# Altium integrated library praline.IntLib: 119 symbols
Pins are listed as number, name and electrical type; pins without a type are passive.

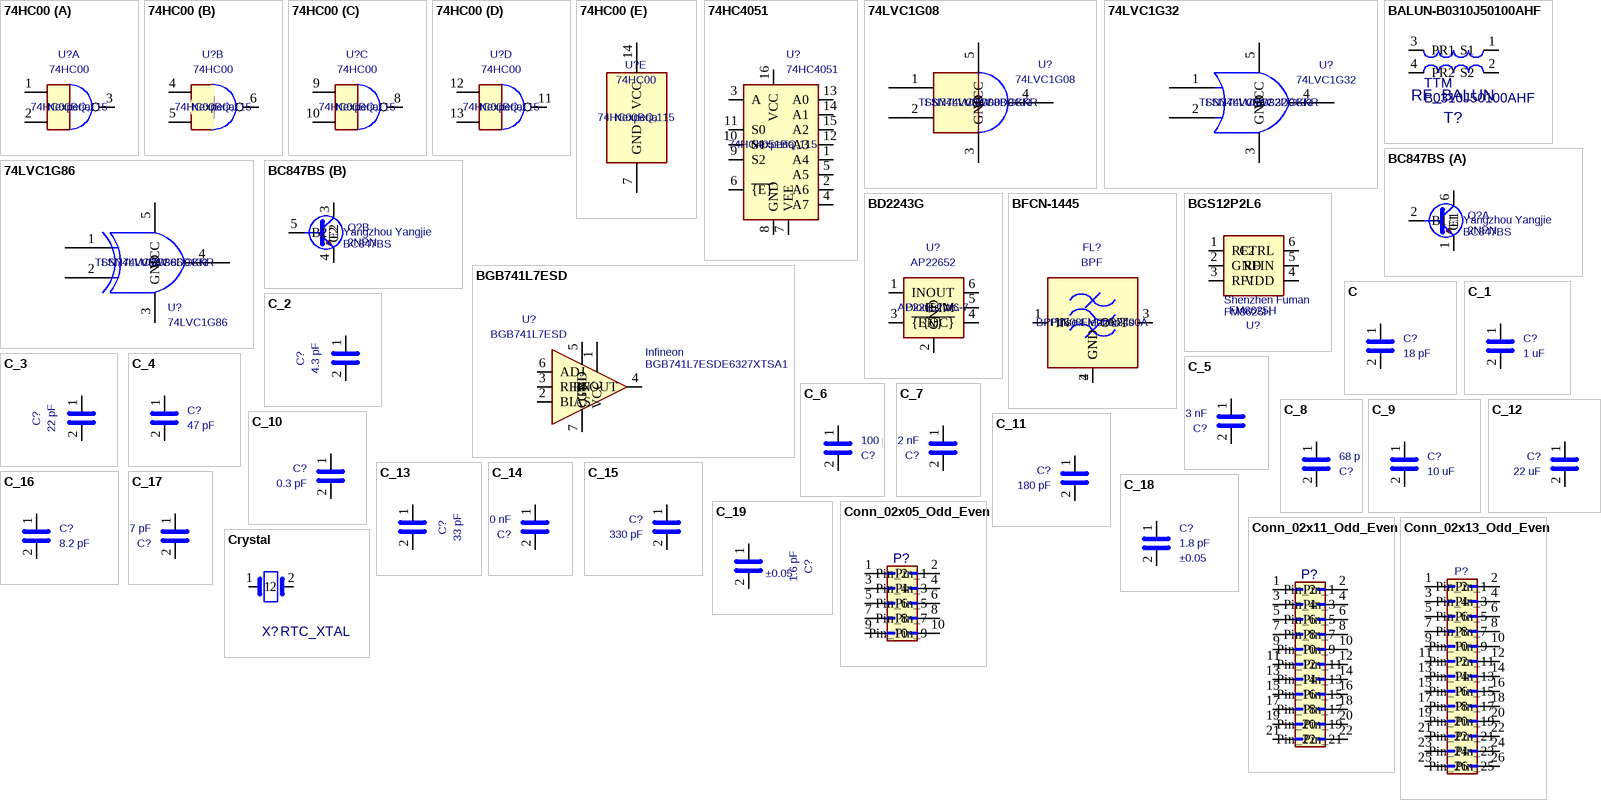
[diagram p0: symbols 74HC00 to Crystal]

## 74HC00
designator U?  Manufacturer: Nexperia  Part Number: 74HC00BQ,115  (hidden comment: 74HC00)
Footprint: Package_DFN_QFN:DHVQFN-14-1EP_2.5x3mm_P0.5mm_EP1x1.5mm; Value: 74HC00
footprint DHVQFN-14-1EP_2.5x3mm_P0.5mm_EP1x1.5mm
part A pins: 1, 2, 3
part B pins: 4, 5, 6
part C pins: 8, 9, 10
part D pins: 11, 12, 13
part E pins: 7 GND, 14 VCC
1 alternate drawing of the same symbol

## 74HC4051
designator U?  Manufacturer: Nexperia  Part Number: 74HC4051BQ,115  (hidden comment: 74HC4051)
Value: 74HC4051; Footprint: Package_DFN_QFN:DHVQFN-16-1EP_2.5x3.5mm_P0.5mm_EP1x2mm
footprint DHVQFN-16-1EP_2.5x3.5mm_P0.5mm_EP1x2mm
pins: 1 A4, 2 A6, 3 A, 4 A7, 5 A5, 6 ~{{E}}, 7 VEE, 8 GND, 9 S2, 10 S1, 11 S0, 12 A3, 13 A0, 14 A1, 15 A2, 16 VCC

## 74LVC1G08
designator U?  Manufacturer: UMW  Part Number: SN74LVC1G08DCKR  Substitution: TI SN74LVC1G08DCKR  (hidden comment: 74LVC1G08)
Value: 74LVC1G08; Footprint: Package_TO_SOT_SMD:SOT-353_SC-70-5
footprint SOT-353_SC-70-5
pins: 1, 2, 3 GND, 4, 5 VCC

## 74LVC1G32
designator U?  Manufacturer: UMW  Part Number: SN74LVC1G32DCKR  Substitution: TI SN74LVC1G32DCKR  (hidden comment: 74LVC1G32)
Value: 74LVC1G32; Footprint: Package_TO_SOT_SMD:SOT-353_SC-70-5
footprint SOT-353_SC-70-5
pins: 1, 2, 3 GND, 4, 5 VCC

## 74LVC1G86
designator U?  Manufacturer: UMW  Part Number: SN74LVC1G86DCKR  Substitution: TI SN74LVC1G86DCKR  (hidden comment: 74LVC1G86)
Value: 74LVC1G86; Footprint: Package_TO_SOT_SMD:SOT-353_SC-70-5
footprint SOT-353_SC-70-5
pins: 1, 2, 3 GND, 4, 5 VCC

## BALUN-B0310J50100AHF
designator T?, comment Manufacturer: TTM  Part Number: B0310J50100AHF  (hidden comment: RF_BALUN)
Value: RF_BALUN; Footprint: RF_Converter:Anaren_0805_2012Metric-6
footprint Anaren_0805_2012Metric-6
pins: 1 S1, 2 S2, 3 PR1, 4 PR2

## BC847BS
designator Q?, comment Manufacturer: Yangzhou Yangjie  Part Number: BC847BS  (hidden comment: 2NPN)
Value: 2NPN; Footprint: Package_TO_SOT_SMD:SOT-363_SC-70-6
footprint SOT-363_SC-70-6
part A pins: 1 E1, 2 B1, 6 C1
part B pins: 3 C2, 4 E2, 5 B2

## BD2243G
designator U?, comment Manufacturer: Diodes Inc.  Part Number: AP22652W6-7  (hidden comment: AP22652)
Value: AP22652; Footprint: Package_SO:TSOP-6_1.65x3.05mm_P0.95mm
footprint TSOP-6_1.65x3.05mm_P0.95mm
pins: 1 IN, 2 GND, 3 ~{{EN}}, 4 ~{{OC}}, 5 ILIM, 6 OUT

## BFCN-1445
designator FL?, comment Manufacturer: Pulse Electronics  Part Number: BPF1608LM02R2400A  (hidden comment: BPF)
Value: BPF; Footprint: praline:Filter_Pulse_BPF1608LM09R5000A
footprint Filter_Pulse_BPF1608LM09R5000A
pins: 1 IN, 2 GND, 3 OUT, 4 GND

## BGB741L7ESD
designator U?  Manufacturer: Infineon  Part Number: BGB741L7ESDE6327XTSA1  (hidden comment: BGB741L7ESD)
Value: BGB741L7ESD; Footprint: praline:TSLP-7-1
footprint TSLP-7-1
pins: 1 VCC, 2 BIAS, 3 RFIN, 4 RFOUT, 5 CTRL, 6 ADJ, 7 GND

## BGS12P2L6
designator U?, comment Manufacturer: Shenzhen Fuman  (hidden comment: FM8625H)
Part Number: FM8625H; Value: FM8625H; Footprint: praline:TSLP-6-4_1.1x0.7mm_P0.4mm
footprint TSLP-6-4_1.1x0.7mm_P0.4mm
pins: 1 RF2, 2 GND, 3 RF1, 4 VDD, 5 RFIN, 6 CTRL

## C
designator C?, comment 18 pF
Manufacturer: Samsung; Part Number: CL05C180JB5NNNC; Substitution: Murata GRM1555C1H180JA01D; Value: 18 pF; Footprint: Capacitor_SMD:C_0402_1005Metric
footprint C_0402_1005Metric
pins: 1, 2

## C_1
designator C?, comment 1 uF
Manufacturer: Samsung; Part Number: CL05A105KA5NQNC; Substitution: Murata GRM155R61E105KA12D; Value: 1 uF; Footprint: Capacitor_SMD:C_0402_1005Metric
footprint C_0402_1005Metric
pins: 1, 2

## C_2
designator C?, comment 4.3 pF
Manufacturer: Murata; Part Number: GRM0335C1E4R3CA01D; Substitution: GRM0335C1E4R3*, GRM0335C1H4R3*; Value: 4.3 pF; Footprint: Capacitor_SMD:C_0201_0603Metric
footprint C_0201_0603Metric
pins: 1, 2

## C_3
designator C?, comment 22 pF
Manufacturer: Murata; Part Number: GRM0335C1H220JA01D; Substitution: GRM0335C1H220*; Value: 22 pF; Footprint: Capacitor_SMD:C_0201_0603Metric
footprint C_0201_0603Metric
pins: 1, 2

## C_4
designator C?, comment 47 pF
Manufacturer: Murata; Part Number: GRM0335C1E470JA01D; Substitution: GRM0335C1E470JA01*, GRM0335C1H470JA01*; Value: 47 pF; Footprint: Capacitor_SMD:C_0201_0603Metric
footprint C_0201_0603Metric
pins: 1, 2

## C_5
designator C?, comment 3.3 nF
Manufacturer: Murata; Part Number: GRM033R71A332KA01D; Substitution: GRM033R71A332K*; Value: 3.3 nF; Footprint: Capacitor_SMD:C_0201_0603Metric
footprint C_0201_0603Metric
pins: 1, 2

## C_6
designator C?, comment 100 pF
Manufacturer: Murata; Part Number: GRM0335C1E101JA01D; Substitution: GRM0335C1E101JA01*, GRM0335C1H101JA01*; Value: 100 pF; Footprint: Capacitor_SMD:C_0201_0603Metric
footprint C_0201_0603Metric
pins: 1, 2

## C_7
designator C?, comment 2.2 nF
Manufacturer: Murata; Part Number: GRM033R71A222KA01D; Substitution: GRM033R71A222KA01*; Value: 2.2 nF; Footprint: Capacitor_SMD:C_0201_0603Metric
footprint C_0201_0603Metric
pins: 1, 2

## C_8
designator C?, comment 68 pF
Manufacturer: Murata; Part Number: GRM0335C1H680JA01D; Substitution: GRM0335C1H680JA01*; Value: 68 pF; Footprint: Capacitor_SMD:C_0201_0603Metric
footprint C_0201_0603Metric
pins: 1, 2

## C_9
designator C?, comment 10 uF
Manufacturer: Samsung; Part Number: CL21A106KOQNNNE; Substitution: Murata GRM21BR61A106KE19L; Value: 10 uF; Footprint: Capacitor_SMD:C_0805_2012Metric
footprint C_0805_2012Metric
pins: 1, 2

## C_10
designator C?, comment 0.3 pF
Manufacturer: Murata; Part Number: GRM0335C1ER30BA01D; Substitution: GRM0335C1*R30*A01*, GRM0335C2*R30*A01*; Value: 0.3 pF; Footprint: Capacitor_SMD:C_0201_0603Metric
footprint C_0201_0603Metric
pins: 1, 2

## C_11
designator C?, comment 180 pF
Manufacturer: Murata; Part Number: GRM0335C1H181JA01D; Substitution: GRM0335C1H181*; Value: 180 pF; Footprint: Capacitor_SMD:C_0201_0603Metric
footprint C_0201_0603Metric
pins: 1, 2

## C_12
designator C?, comment 22 uF
Manufacturer: Samsung; Part Number: CL21A226MAYNNNE; Substitution: Murata GRM21BR61A106KE19L; Value: 22 uF; Footprint: Capacitor_SMD:C_0805_2012Metric
footprint C_0805_2012Metric
pins: 1, 2

## C_13
designator C?, comment 33 pF
Manufacturer: Murata; Part Number: GRM0335C1H330JA01D; Substitution: GRM0335C1H330*, GRM0335C1E330*; Value: 33 pF; Footprint: Capacitor_SMD:C_0201_0603Metric
footprint C_0201_0603Metric
pins: 1, 2

## C_14
designator C?, comment 100 nF
Manufacturer: Samsung; Part Number: CL05A104KA5NNNC; Substitution: Murata GRM155R61A104KA01D; Value: 100 nF; Footprint: Capacitor_SMD:C_0402_1005Metric
footprint C_0402_1005Metric
pins: 1, 2

## C_15
designator C?, comment 330 pF
Part Number: GRM0335C1E331JA01D; Manufacturer: Murata; Substitution: GRM0335C1E331*, GRM0335C1H331*; Value: 330 pF; Footprint: Capacitor_SMD:C_0201_0603Metric
footprint C_0201_0603Metric
pins: 1, 2

## C_16
designator C?, comment 8.2 pF
Manufacturer: Murata; Part Number: GRM0335C1H8R2CA01D; Substitution: GRM0335C1H8R2*; Value: 8.2 pF; Footprint: Capacitor_SMD:C_0201_0603Metric
footprint C_0201_0603Metric
pins: 1, 2

## C_17
designator C?, comment 0.7 pF
Manufacturer: Murata; Part Number: GRM0335C1ER70WA01D; Substitution: GRM0335C1HR70W*, GRM0335C1ER70W*; Value: 0.7 pF; Footprint: Capacitor_SMD:C_0201_0603Metric
footprint C_0201_0603Metric
pins: 1, 2

## C_18
designator C?, comment Tolerance: ±0.05  (hidden comment: 1.8 pF)
Manufacturer: Murata; Part Number: GRM0335C1E1R8WA01D; Substitution: GRM0335C1H1R8W*, GRM0335C1E1R8W*; Value: 1.8 pF; Footprint: Capacitor_SMD:C_0201_0603Metric
footprint C_0201_0603Metric
pins: 1, 2

## C_19
designator C?, comment Tolerance: ±0.05  (hidden comment: 1.6 pF)
Manufacturer: Murata; Part Number: GRM0335C1E1R6WA01D; Substitution: GRM0335C1H1R6W*, GRM0335C1E1R6W*; Value: 1.6 pF; Footprint: Capacitor_SMD:C_0201_0603Metric
footprint C_0201_0603Metric
pins: 1, 2

## Conn_02x05_Odd_Even
designator P?, comment LPC_JTAG  (value not drawn)
Manufacturer: Sullins; Part Number: GRPB052VWVN-RC; Value: LPC_JTAG; Footprint: Connector_PinHeader_1.27mm:PinHeader_2x05_P1.27mm_Vertical
footprint PinHeader_2x05_P1.27mm_Vertical
pins: 1 Pin_1, 2 Pin_2, 3 Pin_3, 4 Pin_4, 5 Pin_5, 6 Pin_6, 7 Pin_7, 8 Pin_8, 9 Pin_9, 10 Pin_10

## Conn_02x11_Odd_Even
designator P?, comment HEADER_2x11  (value not drawn)
Manufacturer: Sullins; Part Number: PPPC112LFBN-RC; Value: HEADER_2x11; Footprint: praline:PinSocket_2x11_P2.54mm_Vertical_Flipped
footprint PinSocket_2x11_P2.54mm_Vertical_Flipped
pins: 1 Pin_1, 2 Pin_2, 3 Pin_3, 4 Pin_4, 5 Pin_5, 6 Pin_6, 7 Pin_7, 8 Pin_8, 9 Pin_9, 10 Pin_10, 11 Pin_11, 12 Pin_12, 13 Pin_13, 14 Pin_14, 15 Pin_15, 16 Pin_16, 17 Pin_17, 18 Pin_18, 19 Pin_19, 20 Pin_20, 21 Pin_21, 22 Pin_22

## Conn_02x13_Odd_Even
designator P?, comment HEADER_2x13  (value not drawn)
Manufacturer: Sullins; Part Number: PPPC132LFBN-RC; Value: HEADER_2x13; Footprint: praline:PinSocket_2x13_P2.54mm_Vertical_Flipped
footprint PinSocket_2x13_P2.54mm_Vertical_Flipped
pins: 1 Pin_1, 2 Pin_2, 3 Pin_3, 4 Pin_4, 5 Pin_5, 6 Pin_6, 7 Pin_7, 8 Pin_8, 9 Pin_9, 10 Pin_10, 11 Pin_11, 12 Pin_12, 13 Pin_13, 14 Pin_14, 15 Pin_15, 16 Pin_16, 17 Pin_17, 18 Pin_18, 19 Pin_19, 20 Pin_20, 21 Pin_21, 22 Pin_22, 23 Pin_23, 24 Pin_24, 25 Pin_25, 26 Pin_26

## Crystal
designator X?, comment RTC_XTAL
Manufacturer: YXC; Part Number: XKXGI-SUA-32.768K; Value: RTC_XTAL; Footprint: praline:Crystal_SMD_3215-2Pin_3.2x1.5mm
footprint Crystal_SMD_3215-2Pin_3.2x1.5mm
pins: 1, 2

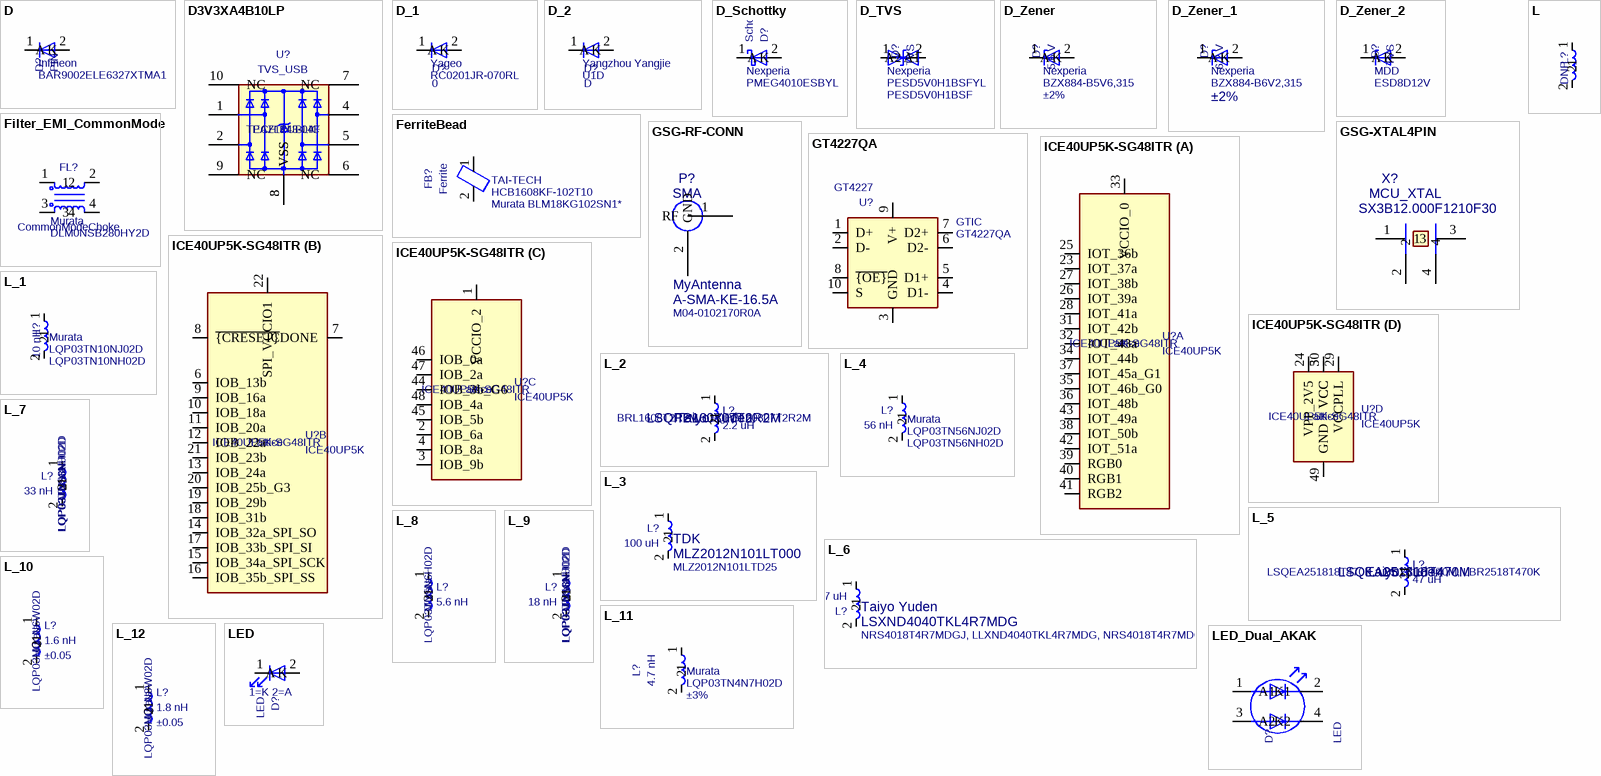
[diagram p1: symbols D to LED_Dual_AKAK]

## D
designator D?, comment Manufacturer: Infineon  Part Number: BAR9002ELE6327XTMA1  (hidden comment: PIN)
Value: PIN; Footprint: praline:TSLP-2-19
footprint TSLP-2-19
pins: 1 K, 2 A

## D3V3XA4B10LP
designator U?, comment Manufacturer: TECH PUBLIC  Part Number: TPAZ1143-04F  (hidden comment: TVS_USB)
Value: TVS_USB; Footprint: Package_DFN_QFN:Diodes_UDFN-10_1.0x2.5mm_P0.5mm
footprint Diodes_UDFN-10_1.0x2.5mm_P0.5mm
pins: 1, 2, 3 VSS, 4, 5, 6 NC, 7 NC, 8 VSS, 9 NC, 10 NC

## D_1
designator D?, comment Manufacturer: Yageo  Part Number: RC0201JR-070RL  (hidden comment: 0)
Value: 0; Footprint: praline:TSLP-2-19
footprint TSLP-2-19
pins: 1 K, 2 A

## D_2
designator D?, comment Manufacturer: Yangzhou Yangjie  Part Number: U1D  (hidden comment: D)
Value: D; Footprint: praline:D_SOD-123FL
footprint D_SOD-123FL
pins: 1 K, 2 A

## D_Schottky
designator D?, comment Manufacturer: Nexperia  Part Number: PMEG4010ESBYL  (hidden comment: Schottky)
Value: Schottky; Footprint: praline:TSLP-2-19
footprint TSLP-2-19
pins: 1 K, 2 A

## D_TVS
designator D?, comment Manufacturer: Nexperia  Part Number: PESD5V0H1BSFYL  Substitution: PESD5V0H1BSF  (hidden comment: TVS)
Value: TVS; Footprint: praline:TSSLP-2-1
footprint TSSLP-2-1
pins: 1 A1, 2 A2

## D_Zener
designator D?, comment Manufacturer: Nexperia  Part Number: BZX884-B5V6,315  Tolerance: ±2%  (hidden comment: 5.6 V)
Value: 5.6 V; Footprint: praline:TSLP-2-19
footprint TSLP-2-19
pins: 1 K, 2 A

## D_Zener_1
designator D?, comment Manufacturer: Nexperia  Part Number: BZX884-B6V2,315  Tolerance: ±2%  (hidden comment: 6.2 V)
Value: 6.2 V; Footprint: praline:TSLP-2-19
footprint TSLP-2-19
pins: 1 K, 2 A

## D_Zener_2
designator D?, comment Manufacturer: MDD  Part Number: ESD8D12V  (hidden comment: TVS)
Value: TVS; Footprint: praline:TSLP-2-19
footprint TSLP-2-19
pins: 1 K, 2 A

## FerriteBead
designator FB?, comment Manufacturer: TAI-TECH  Part Number: HCB1608KF-102T10  Substitution: Murata BLM18KG102SN1*  (hidden comment: Ferrite)
Value: Ferrite; Footprint: Inductor_SMD:L_0603_1608Metric
footprint L_0603_1608Metric
pins: 1, 2

## Filter_EMI_CommonMode
designator FL?, comment Manufacturer: Murata  Part Number: DLM0NSB280HY2D  (hidden comment: CommonModeChoke)
Value: CommonModeChoke; Footprint: praline:L_CommonModeChoke_Murata_DLM0NS
footprint L_CommonModeChoke_Murata_DLM0NS
pins: 1, 2, 3, 4

## GSG-RF-CONN
designator P?, comment Manufacturer: MyAntenna  Part Number: A-SMA-KE-16.5A  Substitution: M04-0102170R0A  (hidden comment: SMA)
Value: SMA; Footprint: praline:SMA_MyAntenna_A-SMA-KE-16.5A_EdgeMount
footprint SMA_MyAntenna_A-SMA-KE-16.5A_EdgeMount
pins: 1 RF, 2 GND

## GSG-XTAL4PIN
designator X?, comment Part Number: SX3B12.000F1210F30  (hidden comment: MCU_XTAL)
Manufacturer: Shenzhen SCTF Electronics; Value: MCU_XTAL; Footprint: praline:Crystal_SMD_3225-4Pin_3.2x2.5mm
footprint Crystal_SMD_3225-4Pin_3.2x2.5mm
pins: 1, 2, 3, 4

## GT4227QA
designator U?, comment Manufacturer: GTIC  Part Number: GT4227QA  (hidden comment: GT4227)
Value: GT4227; Footprint: praline:GTIC_UQFN-10_1.4x1.8mm_P0.4mm
footprint GTIC_UQFN-10_1.4x1.8mm_P0.4mm
pins: 1 D+, 2 D-, 3 GND, 4 D1-, 5 D1+, 6 D2-, 7 D2+, 8 ~{{OE}}, 9 V+, 10 S

## ICE40UP5K-SG48ITR
designator U?, comment Manufacturer: Lattice  Part Number: ICE40UP5K-SG48ITR  (hidden comment: ICE40UP5K)
Value: ICE40UP5K; Footprint: praline:QFN-48-1EP_7x7mm_P0.5mm_EP5.6x5.6mm_ThermalVias
footprint QFN-48-1EP_7x7mm_P0.5mm_EP5.6x5.6mm_ThermalVias
part A pins: 23 IOT_37a, 25 IOT_36b, 26 IOT_39a, 27 IOT_38b, 28 IOT_41a, 31 IOT_42b, 32 IOT_43a, 33 VCCIO_0, 34 IOT_44b, 35 IOT_46b_G0, 36 IOT_48b, 37 IOT_45a_G1, 38 IOT_50b, 39 RGB0, 40 RGB1, 41 RGB2, 42 IOT_51a, 43 IOT_49a
part B pins: 6 IOB_13b, 7 CDONE, 8 ~{{CRESET}}, 9 IOB_16a, 10 IOB_18a, 11 IOB_20a, 12 IOB_22a, 13 IOB_24a, 14 IOB_32a_SPI_SO, 15 IOB_34a_SPI_SCK, 16 IOB_35b_SPI_SS, 17 IOB_33b_SPI_SI, 18 IOB_31b, 19 IOB_29b, 20 IOB_25b_G3, 21 IOB_23b, 22 SPI_VCCIO1
part C pins: 1 VCCIO_2, 2 IOB_6a, 3 IOB_9b, 4 IOB_8a, 44 IOB_3b_G6, 45 IOB_5b, 46 IOB_0a, 47 IOB_2a, 48 IOB_4a
part D pins: 5 VCC, 24 VPP_2V5, 29 VCCPLL, 30 VCC, 49 GND

## L
designator L?, comment DNP
Value: DNP; Footprint: Inductor_SMD:L_0201_0603Metric
footprint L_0201_0603Metric
pins: 1, 2

## L_1
designator L?, comment Manufacturer: Murata  Part Number: LQP03TN10NJ02D  Substitution: LQP03TN10NH02D  (hidden comment: 10 nH)
Value: 10 nH; Footprint: Inductor_SMD:L_0201_0603Metric
footprint L_0201_0603Metric
pins: 1, 2

## L_2
designator L?, comment Manufacturer: Taiyo Yuden  Part Number: LSQPB160807T2R2M  Substitution: BRL1608T2R2M, LLQPB160807T2R2M  (hidden comment: 2.2 uH)
Value: 2.2 uH; Footprint: Inductor_SMD:L_0603_1608Metric
footprint L_0603_1608Metric
pins: 1, 2

## L_3
designator L?, comment Manufacturer: TDK  Part Number: MLZ2012N101LT000  Substitution: MLZ2012N101LTD25  (hidden comment: 100 uH)
Value: 100 uH; Footprint: praline:L_TDK_MLZ2012_h1.25mm
footprint L_TDK_MLZ2012_h1.25mm
pins: 1, 2

## L_4
designator L?, comment Manufacturer: Murata  Part Number: LQP03TN56NJ02D  Substitution: LQP03TN56NH02D  (hidden comment: 56 nH)
Value: 56 nH; Footprint: Inductor_SMD:L_0201_0603Metric
footprint L_0201_0603Metric
pins: 1, 2

## L_5
designator L?, comment Manufacturer: Taiyo Yuden  Part Number: LSQEA251818T470M  Substitution: LSQEA251818T470K, LBR2518T470M, LBR2518T470K  (hidden comment: 47 uH)
Value: 47 uH; Footprint: praline:L_Taiyo-Yuden_A251818
footprint L_Taiyo-Yuden_A251818
pins: 1, 2

## L_6
designator L?, comment Manufacturer: Taiyo Yuden  Part Number: LSXND4040TKL4R7MDG  Substitution: NRS4018T4R7MDGJ, LLXND4040TKL4R7MDG, NRS4018T4R7MDGJ  (hidden comment: 4.7 uH)
Value: 4.7 uH; Footprint: Inductor_SMD:L_Taiyo-Yuden_NR-40xx
footprint L_Taiyo-Yuden_NR-40xx
pins: 1, 2

## L_7
designator L?, comment Manufacturer: Murata  Part Number: LQP03TN33NJ02D  Substitution: LQP03TN56NH02D  (hidden comment: 33 nH)
Value: 33 nH; Footprint: Inductor_SMD:L_0201_0603Metric
footprint L_0201_0603Metric
pins: 1, 2

## L_8
designator L?, comment Manufacturer: Murata  Part Number: LQP03TN5N6H02D  (hidden comment: 5.6 nH)
Value: 5.6 nH; Footprint: Inductor_SMD:L_0201_0603Metric
footprint L_0201_0603Metric
pins: 1, 2

## L_9
designator L?, comment Manufacturer: Murata  Part Number: LQP03TN18NJ02D  Substitution: LQP03TN56NH02D  (hidden comment: 18 nH)
Value: 18 nH; Footprint: Inductor_SMD:L_0201_0603Metric
footprint L_0201_0603Metric
pins: 1, 2

## L_10
designator L?, comment Manufacturer: Murata  Part Number: LQP03HQ1N6W02D  Tolerance: ±0.05  (hidden comment: 1.6 nH)
Value: 1.6 nH; Footprint: Inductor_SMD:L_0201_0603Metric
footprint L_0201_0603Metric
pins: 1, 2

## L_11
designator L?, comment Manufacturer: Murata  Part Number: LQP03TN4N7H02D  Tolerance: ±3%  (hidden comment: 4.7 nH)
Value: 4.7 nH; Footprint: Inductor_SMD:L_0201_0603Metric
footprint L_0201_0603Metric
pins: 1, 2

## L_12
designator L?, comment Manufacturer: Murata  Part Number: LQP03HQ1N8W02D  Tolerance: ±0.05  (hidden comment: 1.8 nH)
Value: 1.8 nH; Footprint: Inductor_SMD:L_0201_0603Metric
footprint L_0201_0603Metric
pins: 1, 2

## LED
designator D?  Sim.Pins: 1=K 2=A  (hidden comment: LED)
Manufacturer: Xinglight; Part Number: XL-3210UOC; Value: LED; Footprint: praline:LED_Single_Xinglight_XL-3210_Horizontal
footprint LED_Single_Xinglight_XL-3210_Horizontal
pins: 1 K, 2 A

## LED_Dual_AKAK
designator D?, comment LED
Manufacturer: Xinglight; Part Number: XL-3210SURUBC; Value: LED; Footprint: praline:LED_Dual_Xinglight_XL-3210_Horizontal
footprint LED_Dual_Xinglight_XL-3210_Horizontal
pins: 1 A1, 2 K1, 3 A2, 4 K2

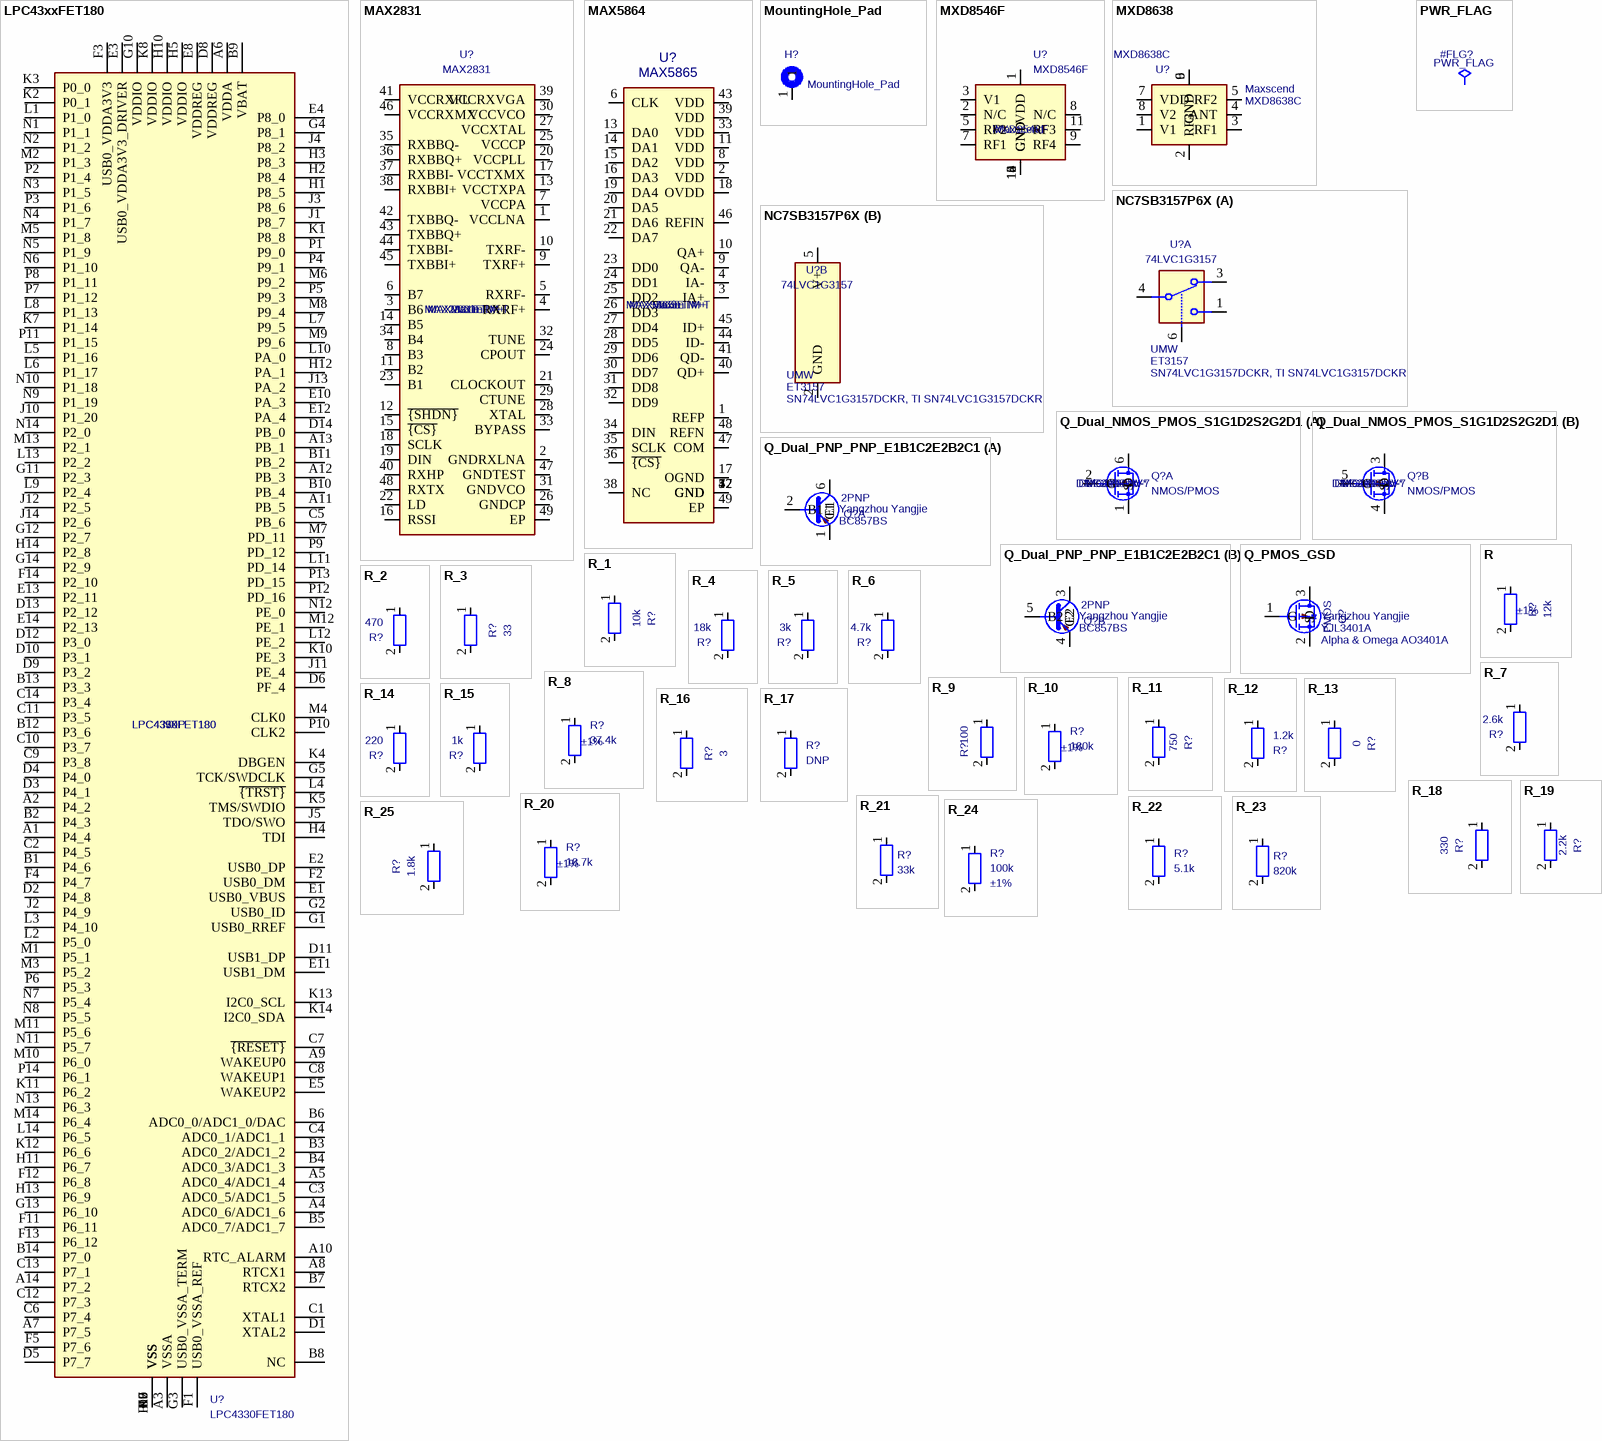
[diagram p2: symbols LPC43xxFET180 to R_25]

## LPC43xxFET180
designator U?, comment Manufacturer: NXP  Substitution: LPC4350FET180  (hidden comment: LPC4330FET180)
Part Number: LPC4330FET180; Value: LPC4330FET180; Footprint: praline:TFBGA-180_12x12mm_Layout14x14_P0.8mm
footprint TFBGA-180_12x12mm_Layout14x14_P0.8mm
pins: A1 P4_4, A2 P4_2, A3 VSSA, A4 ADC0_6/ADC1_6, A5 ADC0_4/ADC1_4, A6 VDDA, A7 P7_5, A8 RTCX1, A9 WAKEUP0, A10 RTC_ALARM, A11 PB_5, A12 PB_3, A13 PB_1, A14 P7_2, B1 P4_6, B2 P4_3, B3 ADC0_2/ADC1_2, B4 ADC0_3/ADC1_3, B5 ADC0_7/ADC1_7, B6 ADC0_0/ADC1_0/DAC, B7 RTCX2, B8 NC, B9 VBAT, B10 PB_4, B11 PB_2, B12 P3_6, B13 P3_3, B14 P7_0, C1 XTAL1, C2 P4_5, C3 ADC0_5/ADC1_5, C4 ADC0_1/ADC1_1, C5 PB_6, C6 P7_4, C7 ~{{RESET}}, C8 WAKEUP1, C9 P3_8, C10 P3_7, C11 P3_5, C12 P7_3, C13 P7_1, C14 P3_4, D1 XTAL2, D2 P4_8, D3 P4_1, D4 P4_0, D5 P7_7, D6 PF_4, D7 VSS, D8 VDDREG, D9 P3_2, D10 P3_1, D11 USB1_DP, D12 P3_0, D13 P2_12, D14 PB_0, E1 USB0_VBUS, E2 USB0_DP, E3 USB0_VDDA3V3_DRIVER, E4 P8_0, E5 WAKEUP2, E6 VSS, E7 VSS, E8 VDDREG, E9 VSS, E10 PA_3, E11 USB1_DM, E12 PA_4, E13 P2_11, E14 P2_13, F1 USB0_VSSA_REF, F2 USB0_DM, F3 USB0_VDDA3V3, F4 P4_7, F5 P7_6, F10 VSS, F11 P6_11, F12 P6_8, F13 P6_12, F14 P2_10, G1 USB0_RREF, G2 USB0_ID, G3 USB0_VSSA_TERM, G4 P8_1, G5 TCK/SWDCLK, G10 VDDIO, G11 P2_3, G12 P2_7, G13 P6_10, G14 P2_9, H1 P8_5, H2 P8_4, H3 P8_3, H4 TDI, H5 VDDIO, H10 VDDIO, H11 P6_7, H12 PA_1, H13 P6_9, H14 P2_8, J1 P8_7, J2 P4_9, J3 P8_6, J4 P8_2, J5 TDO/SWO, J10 P1_20, J11 PE_4, J12 P2_5, J13 PA_2, J14 P2_6, K1 P8_8, K2 P0_1, K3 P0_0, K4 DBGEN, K5 TMS/SWDIO, K6 VSS, K7 P1_14, K8 VDDIO, K9 VSS, K10 PE_3, K11 P6_2, K12 P6_6, K13 I2C0_SCL, K14 I2C0_SDA, L1 P1_0, L2 P5_0, L3 P4_10, L4 ~{{TRST}}, L5 P1_16, L6 P1_17, L7 P9_5, L8 P1_13, L9 P2_4, L10 PA_0, L11 PD_14, L12 PE_2, L13 P2_2, L14 P6_5, M1 P5_1, M2 P1_3, M3 P5_2, M4 CLK0, M5 P1_8, M6 P9_2, M7 PD_11, M8 P9_4, M9 P9_6, M10 P6_0, M11 P5_6, M12 PE_1, M13 P2_1, M14 P6_4, N1 P1_1, N2 P1_2, N3 P1_5, N4 P1_7, N5 P1_9, N6 P1_10, N7 P5_4, N8 P5_5, N9 P1_19, N10 P1_18, N11 P5_7, N12 PE_0, N13 P6_3, N14 P2_0, P1 P9_0, P2 P1_4, P3 P1_6, P4 P9_1, P5 P9_3, P6 P5_3, P7 P1_12, P8 P1_11, P9 PD_12, P10 CLK2, P11 P1_15, P12 PD_16, P13 PD_15, P14 P6_1

## MAX2831
designator U?  Manufacturer: Maxim  Part Number: MAX2831ETM+T  Substitution: MAX2831ETM+  (hidden comment: MAX2831)
Value: MAX2831; Footprint: praline:QFN-48-1EP_7x7mm_P0.5mm_EP5.6x5.6mm_ThermalVias
footprint QFN-48-1EP_7x7mm_P0.5mm_EP5.6x5.6mm_ThermalVias
pins: 1 VCCLNA, 2 GNDRXLNA, 3 B6, 4 RXRF+, 5 RXRF-, 6 B7, 7 VCCPA, 8 B3, 9 TXRF+, 10 TXRF-, 11 B2, 12 ~{{SHDN}}, 13 VCCTXPA, 14 B5, 15 ~{{CS}}, 16 RSSI, 17 VCCTXMX, 18 SCLK, 19 DIN, 20 VCCPLL, 21 CLOCKOUT, 22 LD, 23 B1, 24 CPOUT, 25 VCCCP, 26 GNDCP, 27 VCCXTAL, 28 XTAL, 29 CTUNE, 30 VCCVCO, 31 GNDVCO, 32 TUNE, 33 BYPASS, 34 B4, 35 RXBBQ-, 36 RXBBQ+, 37 RXBBI-, 38 RXBBI+, 39 VCCRXVGA, 40 RXHP, 41 VCCRXFL, 42 TXBBQ-, 43 TXBBQ+, 44 TXBBI-, 45 TXBBI+, 46 VCCRXMX, 47 GNDTEST, 48 RXTX, 49 EP

## MAX5864
designator U?, comment Manufacturer: Maxim  Part Number: MAX5865ETM+T  Substitution: MAX5865ETM+  (hidden comment: MAX5865)
Value: MAX5865; Footprint: praline:QFN-48-1EP_7x7mm_P0.5mm_EP5.3x5.3mm_ThermalVias
footprint QFN-48-1EP_7x7mm_P0.5mm_EP5.3x5.3mm_ThermalVias
pins: 1 REFP, 2 VDD, 3 IA+, 4 IA-, 5 GND, 6 CLK, 7 GND, 8 VDD, 9 QA-, 10 QA+, 11 VDD, 12 GND, 13 DA0, 14 DA1, 15 DA2, 16 DA3, 17 OGND, 18 OVDD, 19 DA4, 20 DA5, 21 DA6, 22 DA7, 23 DD0, 24 DD1, 25 DD2, 26 DD3, 27 DD4, 28 DD5, 29 DD6, 30 DD7, 31 DD8, 32 DD9, 33 VDD, 34 DIN, 35 SCLK, 36 ~{{CS}}, 37 GND, 38 NC, 39 VDD, 40 QD+, 41 QD-, 42 GND, 43 VDD, 44 ID-, 45 ID+, 46 REFIN, 47 COM, 48 REFN, 49 EP

## MountingHole_Pad
designator H?
Footprint: MountingHole:MountingHole_2.2mm_M2_Pad_Via; Value: MountingHole_Pad
footprint MountingHole_2.2mm_M2_Pad_Via
pins: 1

## MXD8546F
designator U?  Manufacturer: Maxscend  (hidden comment: MXD8546F)
Part Number: MXD8546F; Value: MXD8546F; Footprint: praline:QFN-12-1EP_2x2mm_P0.5mm_EP1x1mm
footprint QFN-12-1EP_2x2mm_P0.5mm_EP1x1mm
pins: 1 VDD, 2 N/C, 3 V1, 4 GND, 5 RF2, 6 GND, 7 RF1, 8 N/C, 9 RF4, 10 GND, 11 RF3, 12 GND, 13 GND

## MXD8638
designator U?, comment Manufacturer: Maxscend  (hidden comment: MXD8638C)
Part Number: MXD8638C; Value: MXD8638C; Footprint: praline:MXD8638C
footprint MXD8638C
pins: 1 V1, 2 RF3, 3 RF1, 4 ANT, 5 RF2, 6 GND, 7 VDD, 8 V2, 9 GND

## NC7SB3157P6X
designator U?, comment Manufacturer: UMW  Part Number: ET3157  Substitution: SN74LVC1G3157DCKR, TI SN74LVC1G3157DCKR  (hidden comment: 74LVC1G3157)
Value: 74LVC1G3157; Footprint: Package_TO_SOT_SMD:SOT-363_SC-70-6
footprint SOT-363_SC-70-6
part A pins: 1, 3, 4, 6
part B pins: 2 GND, 5 V+

## PWR_FLAG
designator #FLG?  (graphical)
Value: PWR_FLAG
pins: 1

## Q_Dual_NMOS_PMOS_S1G1D2S2G2D1
designator Q?, comment Manufacturer: Diodes Inc.  Part Number: DMC2400UV-7  Substitution: DMC2400UV*  (hidden comment: NMOS/PMOS)
Value: NMOS/PMOS; Footprint: Package_TO_SOT_SMD:SOT-563
footprint SOT-563
part A pins: 1 S, 2 G, 6 D
part B pins: 3 D, 4 S, 5 G

## Q_Dual_PNP_PNP_E1B1C2E2B2C1
designator Q?, comment Manufacturer: Yangzhou Yangjie  Part Number: BC857BS  (hidden comment: 2PNP)
Value: 2PNP; Footprint: Package_TO_SOT_SMD:SOT-363_SC-70-6
footprint SOT-363_SC-70-6
part A pins: 1 E1, 2 B1, 6 C1
part B pins: 3 C2, 4 E2, 5 B2

## Q_PMOS_GSD
designator Q?, comment Manufacturer: Yangzhou Yangjie  Part Number: YJL3401A  Substitution: Alpha & Omega AO3401A  (hidden comment: PMOS)
Value: PMOS; Footprint: Package_TO_SOT_SMD:SOT-23-3
footprint SOT-23-3
pins: 1 G, 2 S, 3 D

## R
designator R?, comment Tolerance: ±1%  (hidden comment: 12k)
Manufacturer: Yageo; Part Number: RC0201FR-0712KL; Substitution: any equivalent; Value: 12k; Footprint: Resistor_SMD:R_0201_0603Metric
footprint R_0201_0603Metric
pins: 1, 2

## R_1
designator R?, comment 10k
Manufacturer: Yageo; Part Number: RC0402JR-0710KL; Substitution: any equivalent; Value: 10k; Footprint: Resistor_SMD:R_0402_1005Metric
footprint R_0402_1005Metric
pins: 1, 2

## R_2
designator R?, comment 470
Manufacturer: Yageo; Part Number: RC0201JR-07470RL; Substitution: any equivalent; Value: 470; Footprint: Resistor_SMD:R_0201_0603Metric
footprint R_0201_0603Metric
pins: 1, 2

## R_3
designator R?, comment 33
Manufacturer: Yageo; Part Number: RC0201JR-0733RL; Substitution: any equivalent; Value: 33; Footprint: Resistor_SMD:R_0201_0603Metric
footprint R_0201_0603Metric
pins: 1, 2

## R_4
designator R?, comment 18k
Manufacturer: Yageo; Part Number: RC0402JR-0718KL; Substitution: any equivalent; Value: 18k; Footprint: Resistor_SMD:R_0402_1005Metric
footprint R_0402_1005Metric
pins: 1, 2

## R_5
designator R?, comment 3k
Manufacturer: Yageo; Part Number: RC0402JR-073KL; Substitution: any equivalent; Value: 3k; Footprint: Resistor_SMD:R_0402_1005Metric
footprint R_0402_1005Metric
pins: 1, 2

## R_6
designator R?, comment 4.7k
Manufacturer: Yageo; Part Number: RC0201FR-074K7L; Substitution: any equivalent; Value: 4.7k; Footprint: Resistor_SMD:R_0201_0603Metric
footprint R_0201_0603Metric
pins: 1, 2

## R_7
designator R?, comment 22.6k
Manufacturer: Yageo; Part Number: RC0201FR-0722K6L; Substitution: any equivalent; Value: 22.6k; Footprint: Resistor_SMD:R_0201_0603Metric
footprint R_0201_0603Metric
pins: 1, 2

## R_8
designator R?, comment Tolerance: ±1%  (hidden comment: 37.4k)
Manufacturer: Yageo; Part Number: RC0402FR-0737K4L; Substitution: any equivalent; Value: 37.4k; Footprint: Resistor_SMD:R_0402_1005Metric
footprint R_0402_1005Metric
pins: 1, 2

## R_9
designator R?, comment 100
Manufacturer: Yageo; Part Number: RC0201JR-07100RL; Substitution: any equivalent; Value: 100; Footprint: Resistor_SMD:R_0201_0603Metric
footprint R_0201_0603Metric
pins: 1, 2

## R_10
designator R?, comment Tolerance: ±1%  (hidden comment: 180k)
Manufacturer: Yageo; Part Number: RC0402FR-07180KL; Substitution: any equivalent; Value: 180k; Footprint: Resistor_SMD:R_0402_1005Metric
footprint R_0402_1005Metric
pins: 1, 2

## R_11
designator R?, comment 750
Manufacturer: Yageo; Part Number: RC0201JR-07750RL; Substitution: any equivalent; Value: 750; Footprint: Resistor_SMD:R_0201_0603Metric
footprint R_0201_0603Metric
pins: 1, 2

## R_12
designator R?, comment 1.2k
Manufacturer: Yageo; Part Number: RC0201JR-071K2L; Substitution: any equivalent; Value: 1.2k; Footprint: Resistor_SMD:R_0201_0603Metric
footprint R_0201_0603Metric
pins: 1, 2

## R_13
designator R?, comment 0
Manufacturer: Yageo; Part Number: RC0201JR-070RL; Substitution: any equivalent; Value: 0; Footprint: Resistor_SMD:R_0201_0603Metric
footprint R_0201_0603Metric
pins: 1, 2

## R_14
designator R?, comment 220
Manufacturer: Yageo; Part Number: RC0201JR-07220RL; Substitution: any equivalent; Value: 220; Footprint: Resistor_SMD:R_0201_0603Metric
footprint R_0201_0603Metric
pins: 1, 2

## R_15
designator R?, comment 1k
Manufacturer: Yageo; Part Number: RC0201FR-071KL; Substitution: any equivalent; Value: 1k; Footprint: Resistor_SMD:R_0201_0603Metric
footprint R_0201_0603Metric
pins: 1, 2

## R_16
designator R?, comment 3
Manufacturer: Yageo; Part Number: RC0201JR-073RL; Substitution: any equivalent; Value: 3; Footprint: Resistor_SMD:R_0201_0603Metric
footprint R_0201_0603Metric
pins: 1, 2

## R_17
designator R?, comment DNP
Value: DNP; Footprint: Resistor_SMD:R_0201_0603Metric
footprint R_0201_0603Metric
pins: 1, 2

## R_18
designator R?, comment 330
Manufacturer: Yageo; Part Number: RC0201JR-07330RL; Substitution: any equivalent; Value: 330; Footprint: Resistor_SMD:R_0201_0603Metric
footprint R_0201_0603Metric
pins: 1, 2

## R_19
designator R?, comment 2.2k
Part Number: RC0201JR-072K2L; Manufacturer: Yageo; Substitution: any equivalent; Value: 2.2k; Footprint: Resistor_SMD:R_0201_0603Metric
footprint R_0201_0603Metric
pins: 1, 2

## R_20
designator R?, comment Tolerance: ±1%  (hidden comment: 18.7k)
Manufacturer: Yageo; Part Number: RC0402FR-0718K7L; Substitution: any equivalent; Value: 18.7k; Footprint: Resistor_SMD:R_0402_1005Metric
footprint R_0402_1005Metric
pins: 1, 2

## R_21
designator R?, comment 33k
Manufacturer: Yageo; Part Number: RC0201JR-0733KL; Substitution: any equivalent; Value: 33k; Footprint: Resistor_SMD:R_0201_0603Metric
footprint R_0201_0603Metric
pins: 1, 2

## R_22
designator R?, comment 5.1k
Part Number: RC0402JR-075K1L; Manufacturer: Yageo; Substitution: any equivalent; Value: 5.1k; Footprint: Resistor_SMD:R_0402_1005Metric
footprint R_0402_1005Metric
pins: 1, 2

## R_23
designator R?, comment 820k
Part Number: RC0402FR-07820KL; Manufacturer: Yageo; Substitution: any equivalent; Value: 820k; Footprint: Resistor_SMD:R_0402_1005Metric
footprint R_0402_1005Metric
pins: 1, 2

## R_24
designator R?, comment Tolerance: ±1%  (hidden comment: 100k)
Manufacturer: Yageo; Part Number: RC0402FR-07100KL; Substitution: any equivalent; Value: 100k; Footprint: Resistor_SMD:R_0402_1005Metric
footprint R_0402_1005Metric
pins: 1, 2

## R_25
designator R?, comment 1.8k
Manufacturer: Yageo; Part Number: RC0402JR-071K8L; Substitution: any equivalent; Value: 1.8k; Footprint: Resistor_SMD:R_0402_1005Metric
footprint R_0402_1005Metric
pins: 1, 2

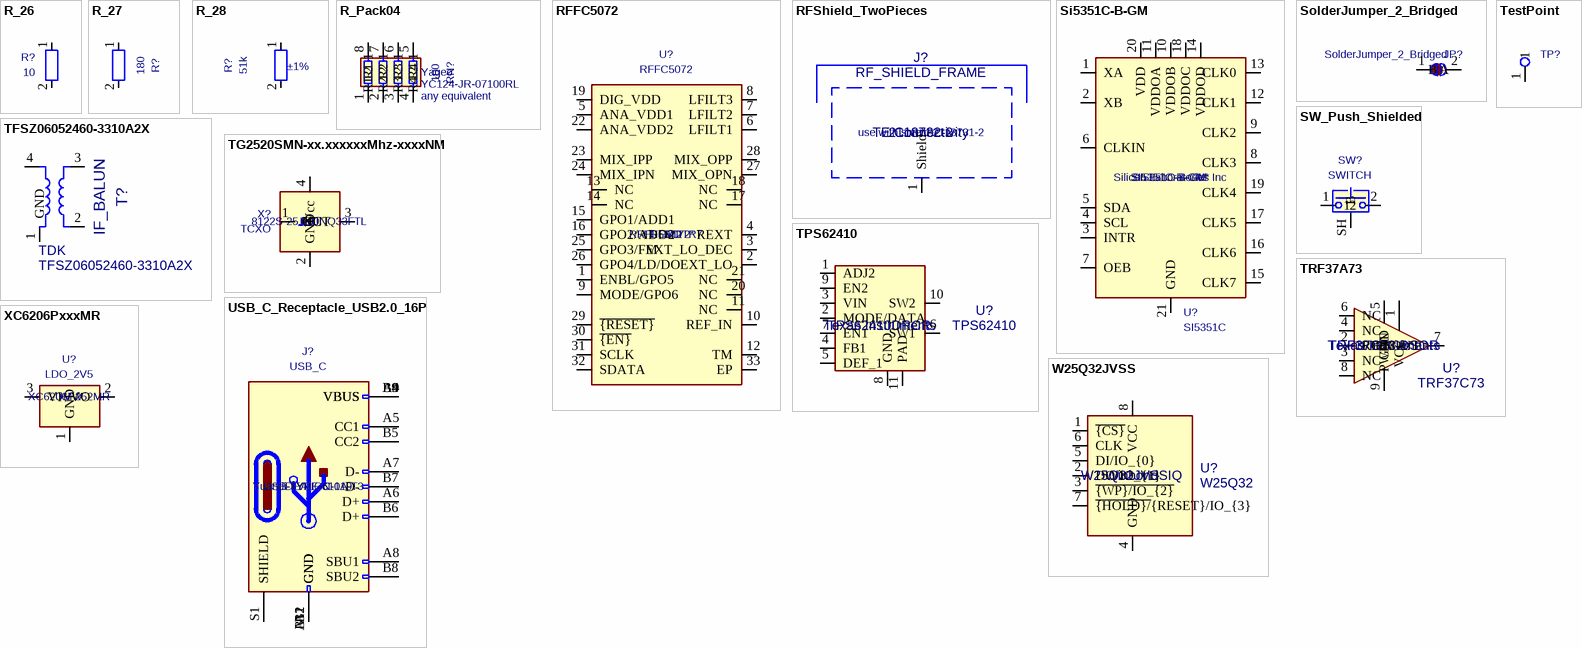
[diagram p3: symbols R_26 to XC6206PxxxMR]

## R_26
designator R?, comment 10
Manufacturer: Yageo; Part Number: RC0201JR-0710RL; Substitution: any equivalent; Value: 10; Footprint: Resistor_SMD:R_0201_0603Metric
footprint R_0201_0603Metric
pins: 1, 2

## R_27
designator R?, comment 180
Manufacturer: Yageo; Part Number: RC0201JR-07180RL; Substitution: any equivalent; Value: 180; Footprint: Resistor_SMD:R_0201_0603Metric
footprint R_0201_0603Metric
pins: 1, 2

## R_28
designator R?, comment Tolerance: ±1%  (hidden comment: 51k)
Manufacturer: Yageo; Part Number: RC0201FR-0751KL; Substitution: any equivalent; Value: 51k; Footprint: Resistor_SMD:R_0201_0603Metric
footprint R_0201_0603Metric
pins: 1, 2

## R_Pack04
designator RN?, comment Manufacturer: Yageo  Part Number: YC124-JR-07100RL  Substitution: any equivalent  (hidden comment: 100)
Value: 100; Footprint: Resistor_SMD:R_Array_Convex_4x0402
footprint R_Array_Convex_4x0402
pins: 1 R1.1, 2 R2.1, 3 R3.1, 4 R4.1, 5 R4.2, 6 R3.2, 7 R2.2, 8 R1.2

## RFFC5072
designator U?  Manufacturer: RFMD  Part Number: RFFC5072TR7  Substitution: RFFC5072*  (hidden comment: RFFC5072)
Value: RFFC5072; Footprint: praline:QFN-32-1EP_5x5mm_P0.5mm_EP3.7x3.7mm_ThermalVias
footprint QFN-32-1EP_5x5mm_P0.5mm_EP3.7x3.7mm_ThermalVias
pins: 1 ENBL/GPO5, 2 EXT_LO, 3 EXT_LO_DEC, 4 REXT, 5 ANA_VDD1, 6 LFILT1, 7 LFILT2, 8 LFILT3, 9 MODE/GPO6, 10 REF_IN, 11 NC, 12 TM, 13 NC, 14 NC, 15 GPO1/ADD1, 16 GPO2/ADD2, 17 NC, 18 NC, 19 DIG_VDD, 20 NC, 21 NC, 22 ANA_VDD2, 23 MIX_IPP, 24 MIX_IPN, 25 GPO3/FM, 26 GPO4/LD/DO, 27 MIX_OPN, 28 MIX_OPP, 29 ~{{RESET}}, 30 ~{{EN}}, 31 SCLK, 32 SDATA, 33 EP

## RFShield_TwoPieces
designator J?, comment Manufacturer: TE Connectivity  Part Number: 2118732-2  Note: use with shield 2118731-2  (hidden comment: RF_SHIELD_FRAME)
Value: RF_SHIELD_FRAME; Footprint: praline:Laird_Technologies_BMI-S-230-F_50.8x38.1mm
footprint Laird_Technologies_BMI-S-230-F_50.8x38.1mm
pins: 1 Shield

## Si5351C-B-GM
designator U?, comment Manufacturer: Silicon Laboratories Inc  Part Number: SI5351C-B-GM  Substitution: SI5351C-B-GM*  (hidden comment: SI5351C)
Value: SI5351C; Footprint: praline:QFN-20-1EP_4x4mm_P0.5mm_EP2.7x2.7mm_ThermalVias
footprint QFN-20-1EP_4x4mm_P0.5mm_EP2.7x2.7mm_ThermalVias
pins: 1 XA, 2 XB, 3 INTR, 4 SCL, 5 SDA, 6 CLKIN, 7 OEB, 8 CLK3, 9 CLK2, 10 VDDOB, 11 VDDOA, 12 CLK1, 13 CLK0, 14 VDDOD, 15 CLK7, 16 CLK6, 17 CLK5, 18 VDDOC, 19 CLK4, 20 VDD, 21 GND

## SolderJumper_2_Bridged
designator JP?
Value: SolderJumper_2_Bridged; Footprint: Jumper:SolderJumper-2_P1.3mm_Bridged_RoundedPad1.0x1.5mm
footprint SolderJumper-2_P1.3mm_Bridged_RoundedPad1.0x1.5mm
pins: 1 A, 2 B

## SW_Push_Shielded
designator SW?, comment SWITCH
Manufacturer: TE Connectivity; Part Number: FSMRA3JH; Value: SWITCH; Footprint: praline:SW_Tactile_SPST_Angled_PTS645Vx58-2LFS
footprint SW_Tactile_SPST_Angled_PTS645Vx58-2LFS
pins: 1, 2, SH B

## TestPoint
designator TP?  (value not drawn)
Value: TestPoint; Footprint: TestPoint:TestPoint_Pad_D1.0mm
footprint TestPoint_Pad_D1.0mm
pins: 1

## TFSZ06052460-3310A2X
designator T?, comment Manufacturer: TDK  Part Number: TFSZ06052460-3310A2X  (hidden comment: IF_BALUN)
Value: IF_BALUN; Footprint: praline:Balun_TDK_TFSZ06052460-3310A2X
footprint Balun_TDK_TFSZ06052460-3310A2X
pins: 1 GND, 2, 3, 4

## TG2520SMN-xx.xxxxxxMhz-xxxxNM
designator X?, comment Manufacturer: HCI  Part Number: 8122S-25.000NQ33FTL  (hidden comment: TCXO)
Value: TCXO; Footprint: praline:Oscillator_SMD_SeikoEpson_TG2520SMN-xxx-xxxxxx-4Pin_2.5x2.0mm
footprint Oscillator_SMD_SeikoEpson_TG2520SMN-xxx-xxxxxx-4Pin_2.5x2.0mm
pins: 1 NC, 2 GND, 3 OUT, 4 Vcc

## TPS62410
designator U?  Manufacturer: Texas Instruments  Part Number: TPS62410DRCR  (hidden comment: TPS62410)
Value: TPS62410; Footprint: praline:Texas_S-PVSON-N10_ThermalVias
footprint Texas_S-PVSON-N10_ThermalVias
pins: 1 ADJ2, 2 MODE/DATA, 3 VIN, 4 FB1, 5 DEF_1, 6 SW1, 7 EN1, 8 GND, 9 EN2, 10 SW2, 11 PAD

## TRF37A73
designator U?, comment Manufacturer: Texas Instruments  Part Number: TRF37C73IDSGR  Substitution: TRF37C73*  (hidden comment: TRF37C73)
Value: TRF37C73; Footprint: Package_SON:WSON-8-1EP_2x2mm_P0.5mm_EP0.9x1.6mm
footprint WSON-8-1EP_2x2mm_P0.5mm_EP0.9x1.6mm
pins: 1 VCC, 2 RFIN, 3 NC, 4 NC, 5 PWDN, 6 NC, 7 RFOUT, 8 NC, 9 GND

## USB_C_Receptacle_USB2.0_16P
designator J?, comment Manufacturer: DEALON  Part Number: USB-TYPE-C-019  Substitution: Yuandi TYPE-611A-T3  (hidden comment: USB_C)
Value: USB_C; Footprint: praline:USB_C_Receptacle_HRO_TYPE-C-31-M-12
footprint USB_C_Receptacle_HRO_TYPE-C-31-M-12
pins: A1 GND, A4 VBUS, A5 CC1, A6 D+, A7 D-, A8 SBU1, A9 VBUS, A12 GND, B1 GND, B4 VBUS, B5 CC2, B6 D+, B7 D-, B8 SBU2, B9 VBUS, B12 GND, S1 SHIELD

## W25Q32JVSS
designator U?, comment Manufacturer: Winbond  Part Number: W25Q32JVSSIQ  (hidden comment: W25Q32)
Value: W25Q32; Footprint: Package_SO:SOIC-8_5.3x5.3mm_P1.27mm
footprint SOIC-8_5.3x5.3mm_P1.27mm
pins: 1 ~{{CS}}, 2 DO/IO_{1}, 3 ~{{WP}/IO_{2}}, 4 GND, 5 DI/IO_{0}, 6 CLK, 7 ~{{HOLD}/}{RESET}/IO_{3}, 8 VCC

## XC6206PxxxMR
designator U?, comment Manufacturer: UMW  Part Number: XC6206P252MR  (hidden comment: LDO_2V5)
Value: LDO_2V5; Footprint: Package_TO_SOT_SMD:SOT-23-3
footprint SOT-23-3
pins: 1 GND, 2 VO, 3 VI